# Altium schematic symbol library bma456.SchLib: 1 symbol
Pins are listed as number, name and electrical type; pins without a type are passive.

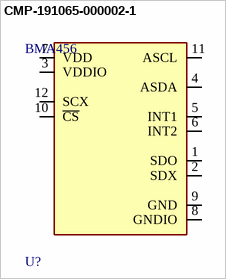
[diagram p0: symbol CMP-191065-000002-1]

## CMP-191065-000002-1
designator U?, comment BMA456
ACCEL 2-16G I2C/SPI 12LGA; Manufacturer: Bosch Sensortec; Accel Range: 2/4/8/16g; Max Supply Voltage: 3.6V; Accel Axis: X+Y and Z; Frequency: 1.6kHz; Operating Supply Current: 150uA; Min Supply Voltage: 1.2V; Sensor Output: I2C,SPI; Accel Sensitivity: 2048-16384LSB/g; Mouser Description: BMA456 Series 3.6 V 1.6 kHz Digital Triaxial Acceleration Sensor - LGA-12; Category: IC; Ambient Temperature Range High: +85°C; Package: 0; RoHS: TRUE; Device Class L2: Motion Sensors; ComponentLink2URL: https://ae-bst.resource.bosch.com/media/_tech/media/datasheets/BST-BMA456-DS000.pdf; Temperature: -40°C to +85°C; Digikey Description: ACCEL 2-16G I2C/SPI 12LGA; Device Class L1: Sensors; Height: 0.7mm; Temperature Range Low: -40°C; Automotive: No; Manufacturer Part Number: BMA456; Lead Free: Yes; ComponentLink2Description: Datasheet; Octopart: https://octopart.com/bma456-bosch+sensortec-99488369; Temperature Range High: +85°C; Device Class L3: Accelerometers; Ambient Temperature Range Low: -40°C
footprint FP-BMA456-MFG
pins: 1 SDO, 2 SDX, 3 VDDIO, 4 ASDA, 5 INT1, 6 INT2, 7 VDD, 8 GNDIO, 9 GND, 10 ~{CS}, 11 ASCL, 12 SCX